# Altium schematic symbol library Sheet1_sensor_mat_inso_v1 1.SCHLIB: 2 symbols
Pins are listed as number, name and electrical type; pins without a type are passive.

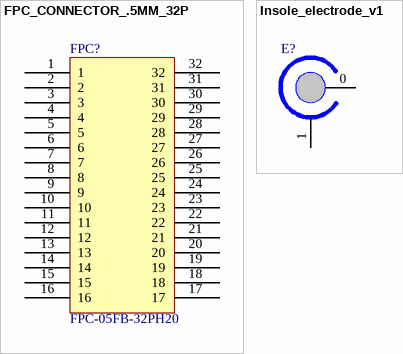
[diagram p0: symbols FPC_CONNECTOR_.5MM_32P to Insole_electrode_v1]

## FPC_CONNECTOR_.5MM_32P
designator FPC?, comment FPC-05FB-32PH20
FPC连接器
footprint FPC-SMD_FPC-0.5MM-32P
pins: 1, 2, 3, 4, 5, 6, 7, 8, 9, 10, 11, 12, 13, 14, 15, 16, 17, 18, 19, 20, 21, 22, 23, 24, 25, 26, 27, 28, 29, 30, 31, 32

## Insole_electrode_v1
designator E?  (value not drawn)
footprint insole_electrode_v1
pins: 0, 1